# Altium schematic symbol library SCH - MCU - TI - TI MSPM0L110X VQFN-32 RHB.SchLib: 1 symbol
Pins are listed as number, name and electrical type; pins without a type are passive.

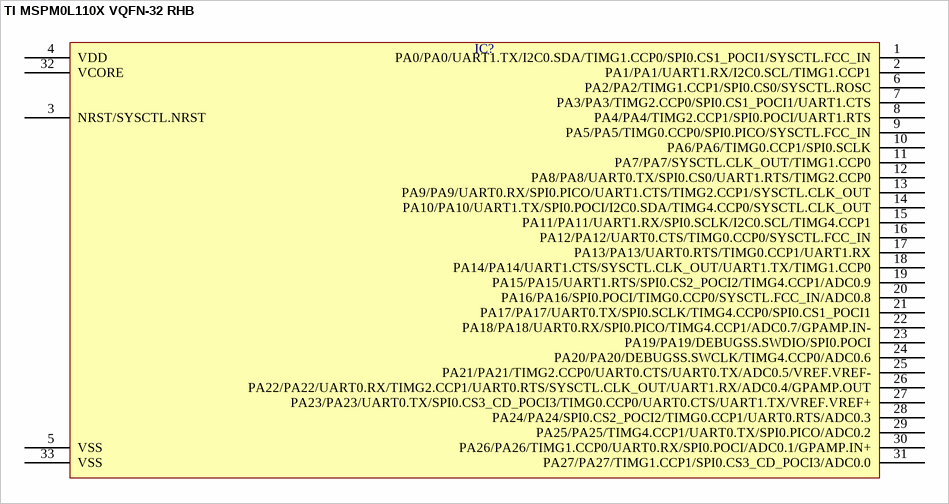
[diagram p0: symbol TI MSPM0L110X VQFN-32 RHB]

## TI MSPM0L110X VQFN-32 RHB
designator IC?  (value not drawn)
pins: 1 PA0/PA0/UART1.TX/I2C0.SDA/TIMG1.CCP0/SPI0.CS1_POCI1/SYSCTL.FCC_IN, 2 PA1/PA1/UART1.RX/I2C0.SCL/TIMG1.CCP1, 3 NRST/SYSCTL.NRST, 4 VDD, 5 VSS, 6 PA2/PA2/TIMG1.CCP1/SPI0.CS0/SYSCTL.ROSC, 7 PA3/PA3/TIMG2.CCP0/SPI0.CS1_POCI1/UART1.CTS, 8 PA4/PA4/TIMG2.CCP1/SPI0.POCI/UART1.RTS, 9 PA5/PA5/TIMG0.CCP0/SPI0.PICO/SYSCTL.FCC_IN, 10 PA6/PA6/TIMG0.CCP1/SPI0.SCLK, 11 PA7/PA7/SYSCTL.CLK_OUT/TIMG1.CCP0, 12 PA8/PA8/UART0.TX/SPI0.CS0/UART1.RTS/TIMG2.CCP0, 13 PA9/PA9/UART0.RX/SPI0.PICO/UART1.CTS/TIMG2.CCP1/SYSCTL.CLK_OUT, 14 PA10/PA10/UART1.TX/SPI0.POCI/I2C0.SDA/TIMG4.CCP0/SYSCTL.CLK_OUT, 15 PA11/PA11/UART1.RX/SPI0.SCLK/I2C0.SCL/TIMG4.CCP1, 16 PA12/PA12/UART0.CTS/TIMG0.CCP0/SYSCTL.FCC_IN, 17 PA13/PA13/UART0.RTS/TIMG0.CCP1/UART1.RX, 18 PA14/PA14/UART1.CTS/SYSCTL.CLK_OUT/UART1.TX/TIMG1.CCP0, 19 PA15/PA15/UART1.RTS/SPI0.CS2_POCI2/TIMG4.CCP1/ADC0.9, 20 PA16/PA16/SPI0.POCI/TIMG0.CCP0/SYSCTL.FCC_IN/ADC0.8, 21 PA17/PA17/UART0.TX/SPI0.SCLK/TIMG4.CCP0/SPI0.CS1_POCI1, 22 PA18/PA18/UART0.RX/SPI0.PICO/TIMG4.CCP1/ADC0.7/GPAMP.IN-, 23 PA19/PA19/DEBUGSS.SWDIO/SPI0.POCI, 24 PA20/PA20/DEBUGSS.SWCLK/TIMG4.CCP0/ADC0.6, 25 PA21/PA21/TIMG2.CCP0/UART0.CTS/UART0.TX/ADC0.5/VREF.VREF-, 26 PA22/PA22/UART0.RX/TIMG2.CCP1/UART0.RTS/SYSCTL.CLK_OUT/UART1.RX/ADC0.4/GPAMP.OUT, 27 PA23/PA23/UART0.TX/SPI0.CS3_CD_POCI3/TIMG0.CCP0/UART0.CTS/UART1.TX/VREF.VREF+, 28 PA24/PA24/SPI0.CS2_POCI2/TIMG0.CCP1/UART0.RTS/ADC0.3, 29 PA25/PA25/TIMG4.CCP1/UART0.TX/SPI0.PICO/ADC0.2, 30 PA26/PA26/TIMG1.CCP0/UART0.RX/SPI0.POCI/ADC0.1/GPAMP.IN+, 31 PA27/PA27/TIMG1.CCP1/SPI0.CS3_CD_POCI3/ADC0.0, 32 VCORE, 33 VSS